# Altium schematic symbol library MCU_WCH_CH32V0.SchLib: 4 symbols
Pins are listed as number, name and electrical type; pins without a type are passive.

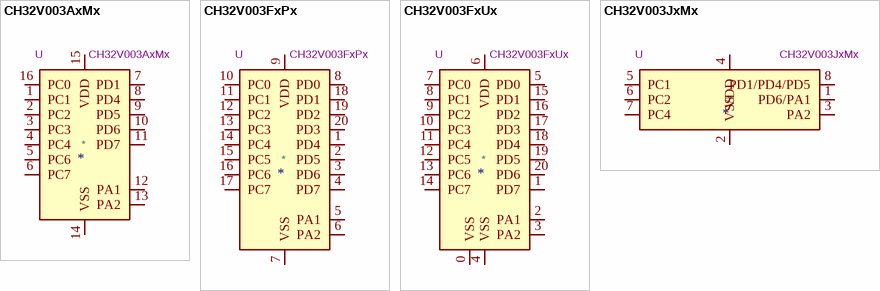
[diagram p0: symbols CH32V003AxMx to CH32V003JxMx]

## CH32V003AxMx
designator *  value CH32V003AxMx  Reference: U
ki_keywords: RISC-V WCH MCU microcontroller; ki_description: CH32V003 series are industrial-grade general-purpose microcontrollers designed based on 32-bit RISC-V instruction set and architecture. It adopts QingKe V2A core, RV32EC instruction set, and supports 2 levels of interrupt nesting. The series are mounted with rich peripheral interfaces and function modules. Its internal organizational structure meets the low-cost and low-power embedded application scenarios.; ki_fp_filters: SOP*3.9x9.9mm*P1.27mm*; Footprint: Package_SO:SOP-16_3.9x9.9mm_P1.27mm; Datasheet: https://www.wch-ic.com/products/CH32V003.html
pins: 1 PC1, 2 PC2, 3 PC3, 4 PC4, 5 PC6, 6 PC7, 7 PD1, 8 PD4, 9 PD5, 10 PD6, 11 PD7, 12 PA1, 13 PA2, 14 VSS, 15 VDD, 16 PC0

## CH32V003FxPx
designator *  value CH32V003FxPx  Reference: U
ki_keywords: microcontroller wch RISC-V; ki_description: CH32V003 series are industrial-grade general-purpose microcontrollers designed based on 32-bit RISC-V instruction set and architecture. It adopts QingKe V2A core, RV32EC instruction set, and supports 2 levels of interrupt nesting. The series are mounted with rich peripheral interfaces and function modules. Its internal organizational structure meets the low-cost and low-power embedded application scenarios.; ki_fp_filters: TSSOP*4.4x6.5mm*P0.65mm*; Footprint: Package_SO:TSSOP-20_4.4x6.5mm_P0.65mm; Datasheet: https://www.wch-ic.com/products/CH32V003.html
pins: 1 PD4, 2 PD5, 3 PD6, 4 PD7, 5 PA1, 6 PA2, 7 VSS, 8 PD0, 9 VDD, 10 PC0, 11 PC1, 12 PC2, 13 PC3, 14 PC4, 15 PC5, 16 PC6, 17 PC7, 18 PD1, 19 PD2, 20 PD3

## CH32V003FxUx
designator *  value CH32V003FxUx  Reference: U
ki_keywords: microcontroller wch RISC-V; ki_description: CH32V003 series are industrial-grade general-purpose microcontrollers designed based on 32-bit RISC-V instruction set and architecture. It adopts QingKe V2A core, RV32EC instruction set, and supports 2 levels of interrupt nesting. The series are mounted with rich peripheral interfaces and function modules. Its internal organizational structure meets the low-cost and low-power embedded application scenarios.; ki_fp_filters: QFN*1EP*3x3mm*P0.4mm*EP1.65x1.65mm*; Footprint: Package_DFN_QFN:QFN-20-1EP_3x3mm_P0.4mm_EP1.65x1.65mm; Datasheet: https://www.wch-ic.com/products/CH32V003.html
pins: 0 VSS, 1 PD7, 2 PA1, 3 PA2, 4 VSS, 5 PD0, 6 VDD, 7 PC0, 8 PC1, 9 PC2, 10 PC3, 11 PC4, 12 PC5, 13 PC6, 14 PC7, 15 PD1, 16 PD2, 17 PD3, 18 PD4, 19 PD5, 20 PD6

## CH32V003JxMx
designator *  value CH32V003JxMx  Reference: U
ki_keywords: microcontroller wch RISC-V; ki_description: CH32V003 series are industrial-grade general-purpose microcontrollers designed based on 32-bit RISC-V instruction set and architecture. It adopts QingKe V2A core, RV32EC instruction set, and supports 2 levels of interrupt nesting. The series are mounted with rich peripheral interfaces and function modules. Its internal organizational structure meets the low-cost and low-power embedded application scenarios.; ki_fp_filters: SOP*3.9x4.9mm*P1.27mm*; Footprint: Package_SO:SOP-8_3.9x4.9mm_P1.27mm; Datasheet: https://www.wch-ic.com/products/CH32V003.html
pins: 1 PD6/PA1, 2 VSS, 3 PA2, 4 VDD, 5 PC1, 6 PC2, 7 PC4, 8 PD1/PD4/PD5